# EAGLE library part MPU-6500 (library Naze32Lib)
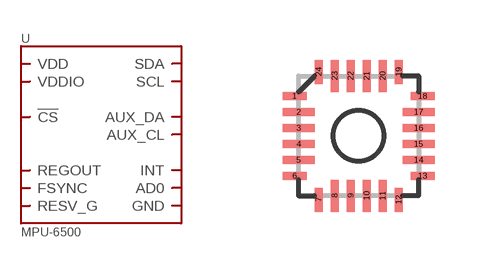
[diagram p1: symbol with the pads of QFN-24_3X3; footprint QFN-24_3X3]

Designator prefix U

## MPU-65003MM  [QFN-24_3X3]
7  AUX_CL
8  VDDIO
9  AD0
10  REGOUT
11  FSYNC
12  INT
13  VDD
18  GND
20  RESV_G
21  AUX_DA
22  !CS
23  SCL
24  SDA

## Footprint QFN-24_3X3 (pad centres in mm)
24-pin QFN with Exposed Thermal pad 3mmx3mm
smd 0.6 x 0.2: 1 -1.6,1; 6 -1.6,-1; 13 1.6,-1; 18 1.6,1
smd 0.8 x 0.2: 2 -1.5,0.6; 3 -1.5,0.2; 4 -1.5,-0.2; 5 -1.5,-0.6; 14 1.5,-0.6; 15 1.5,-0.2; 16 1.5,0.2; 17 1.5,0.6
smd 0.2 x 0.6: 7 -1,-1.6; 12 1,-1.6; 19 1,1.6; 24 -1,1.6
smd 0.2 x 0.8: 8 -0.6,-1.5; 9 -0.2,-1.5; 10 0.2,-1.5; 11 0.6,-1.5; 20 0.6,1.5; 21 0.2,1.5; 22 -0.2,1.5; 23 -0.6,1.5